# EAGLE library part INA121 (library TI)
FET Input, Low Power Instrumentation Amplifier
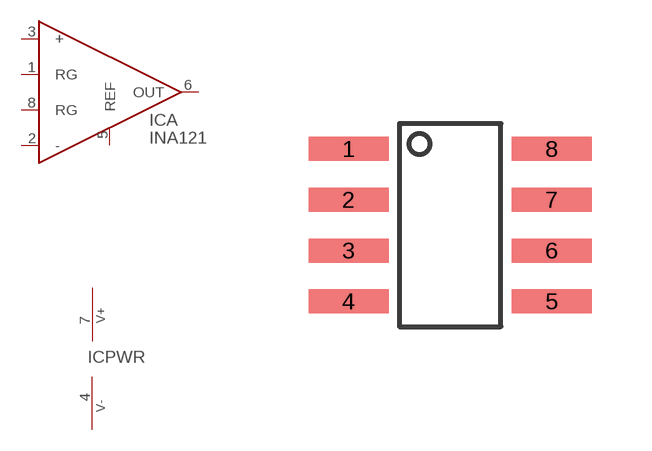
[diagram p13: symbol with the pads of SO8; footprint SO8]

Designator prefix IC; gates A=INTSR_AMP PWR=ICPWR-V+-V-

## INA121U  [SO8]
1  A:RG
2  A:-
3  A:+
4  PWR:V-  pwr
5  A:REF
6  A:OUT
7  PWR:V+  pwr
8  A:RG

## Footprint SO8 (pad centres in mm)
SO8 (Texas Instruments)
smd 2 x 0.6: 1 -2.54,1.905; 2 -2.54,0.635; 3 -2.54,-0.635; 4 -2.54,-1.905; 5 2.54,-1.905; 6 2.54,-0.635; 7 2.54,0.635; 8 2.54,1.905